# Altium schematic symbol library AM3517_ZCN_FCBGA491.SchLib: 1 symbol
Pins are listed as number, name and electrical type; pins without a type are passive.

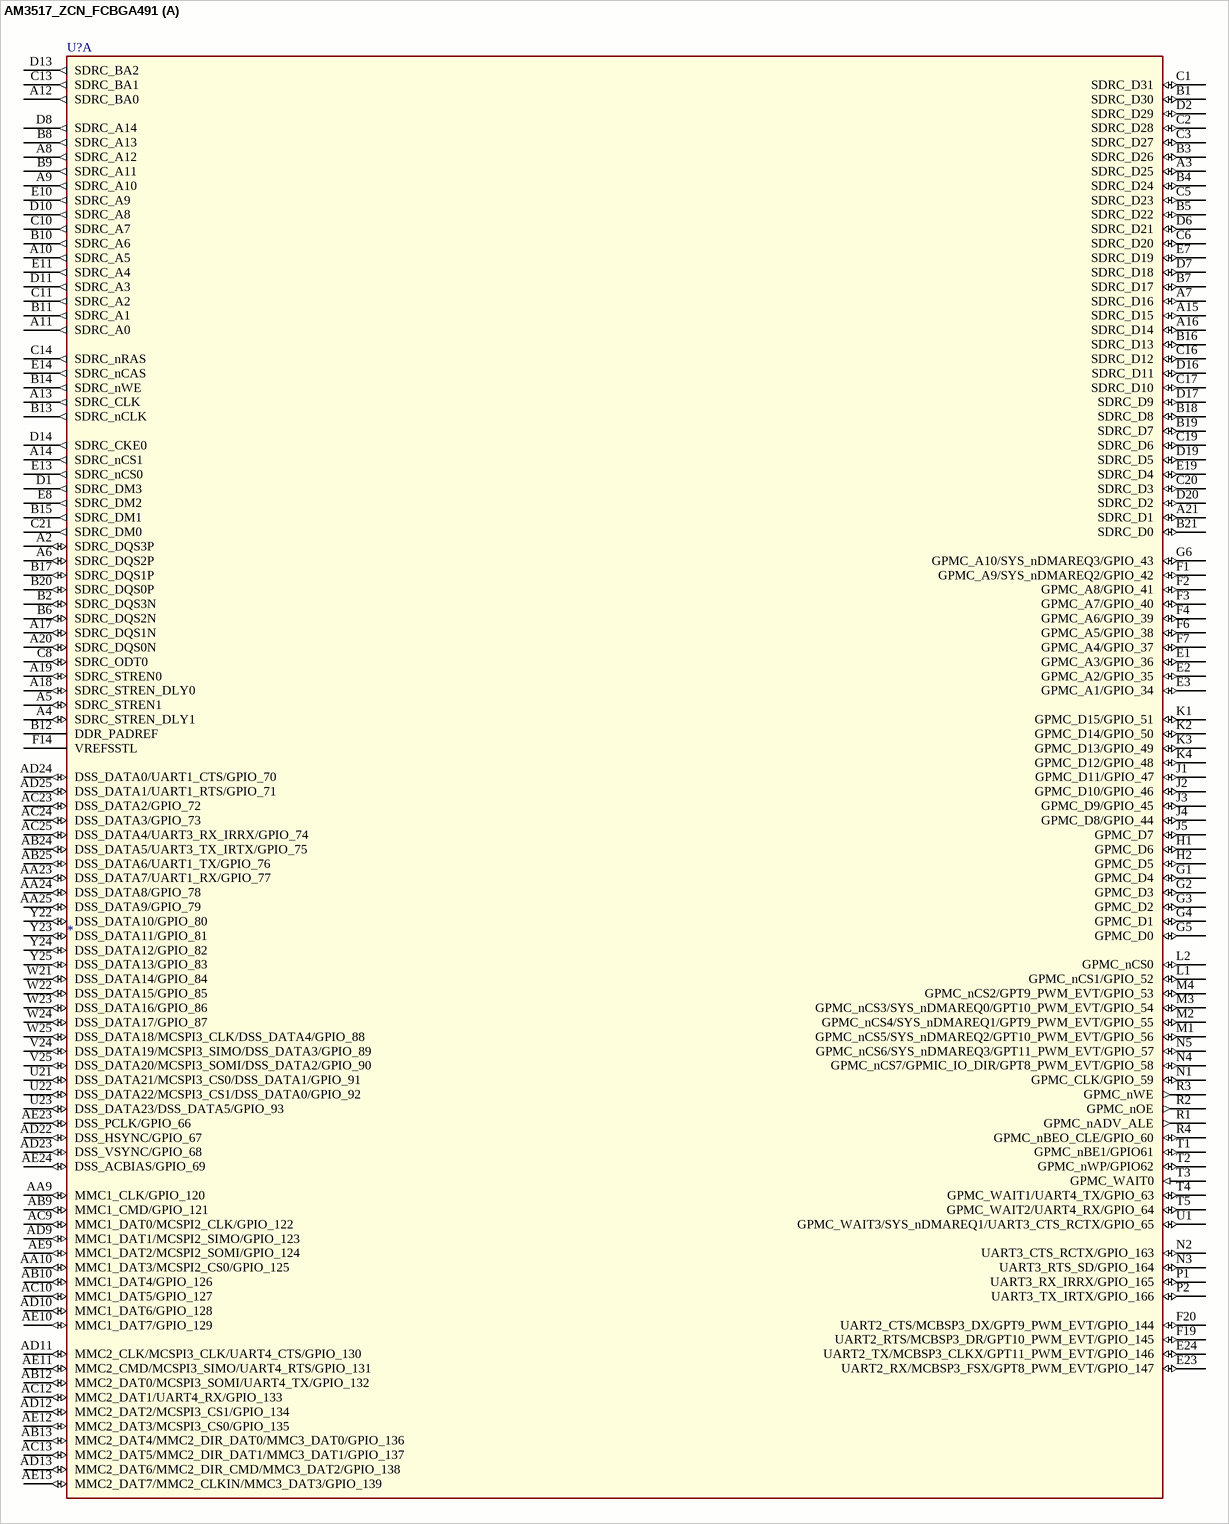
[diagram p0: symbol AM3517_ZCN_FCBGA491]

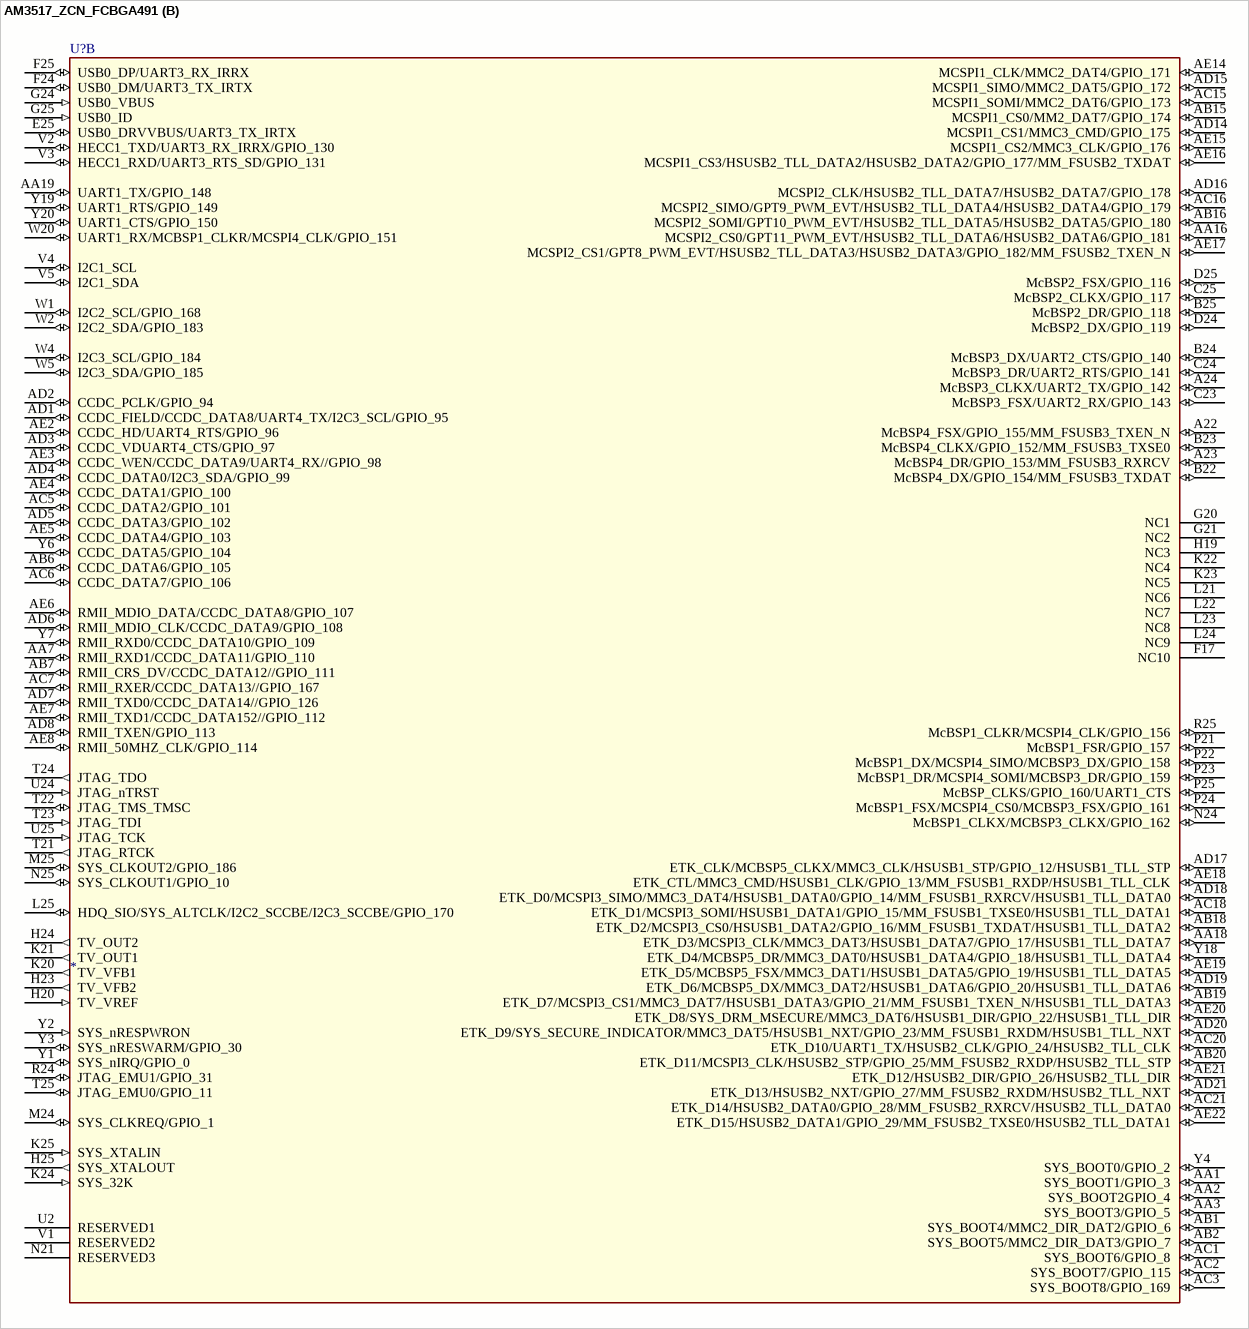
[diagram p1: symbol AM3517_ZCN_FCBGA491]

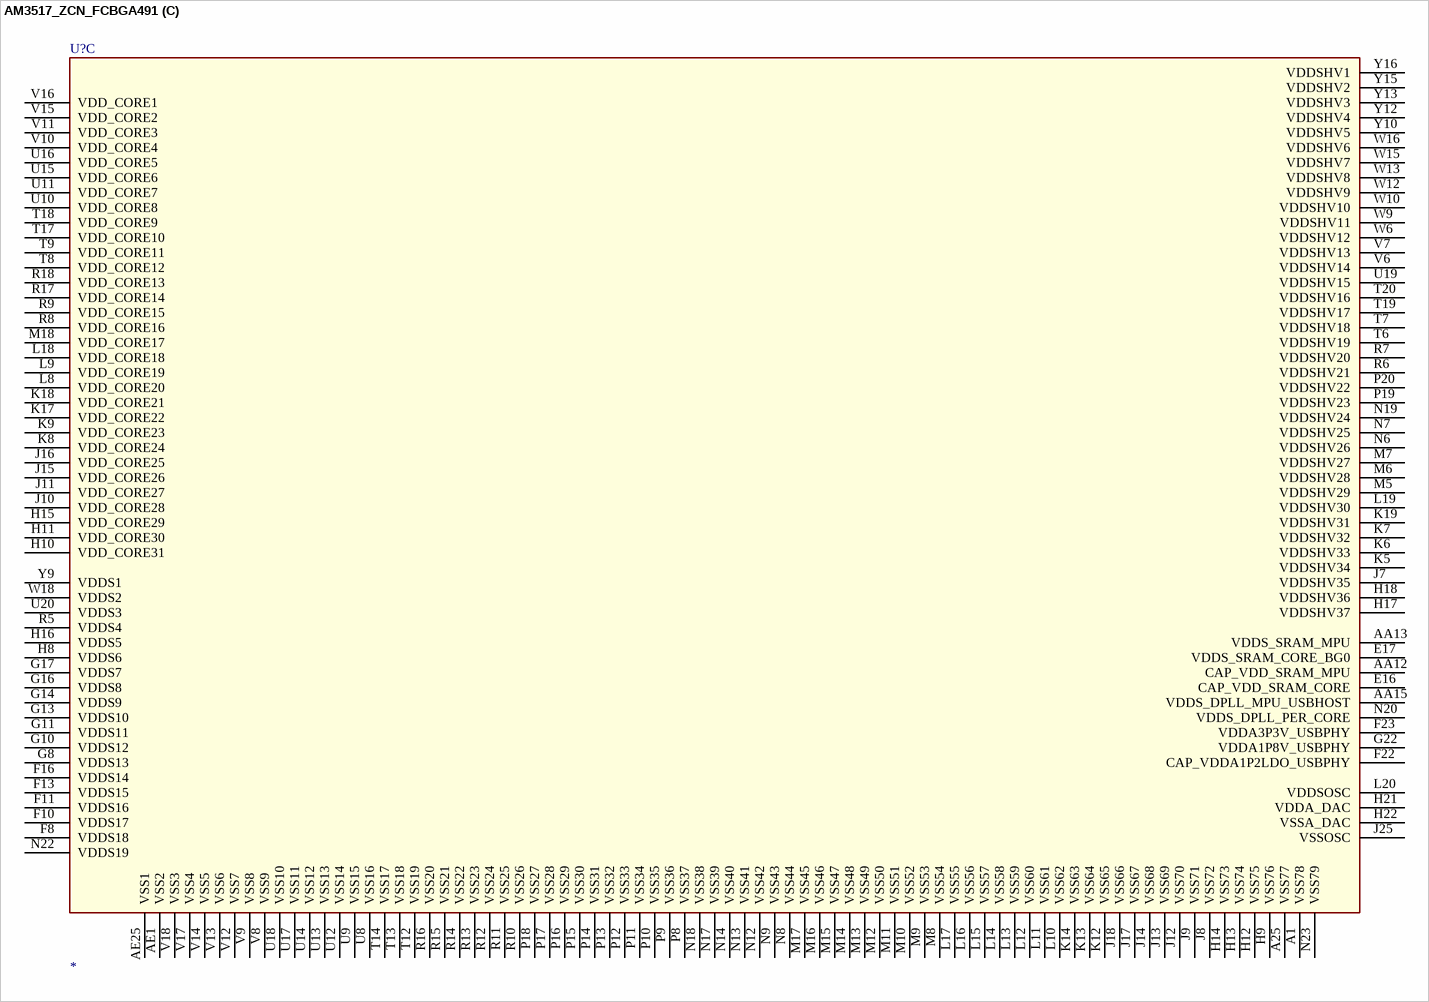
[diagram p2: symbol AM3517_ZCN_FCBGA491]

## AM3517_ZCN_FCBGA491
designator U?
signal-integrity model Model Name (Model Description)
part A pins: A2 SDRC_DQS3P (io), A3 SDRC_D25 (io), A4 SDRC_STREN_DLY1 (io), A5 SDRC_STREN1 (io), A6 SDRC_DQS2P (io), A7 SDRC_D16 (io), A8 SDRC_A12 (out), A9 SDRC_A10 (out), A10 SDRC_A5 (out), A11 SDRC_A0 (out), A12 SDRC_BA0 (out), A13 SDRC_CLK (out), A14 SDRC_nCS1 (out), A15 SDRC_D15 (io), A16 SDRC_D14 (io), A17 SDRC_DQS1N (io), A18 SDRC_STREN_DLY0 (io), A19 SDRC_STREN0 (io), A20 SDRC_DQS0N (io), A21 SDRC_D1 (io), AA9 MMC1_CLK/GPIO_120 (io), AA10 MMC1_DAT3/MCSPI2_CS0/GPIO_125 (io), AA23 DSS_DATA7/UART1_RX/GPIO_77 (io), AA24 DSS_DATA8/GPIO_78 (io), AA25 DSS_DATA9/GPIO_79 (io), AB9 MMC1_CMD/GPIO_121 (io), AB10 MMC1_DAT4/GPIO_126 (io), AB12 MMC2_DAT0/MCSPI3_SOMI/UART4_TX/GPIO_132 (io), AB13 MMC2_DAT4/MMC2_DIR_DAT0/MMC3_DAT0/GPIO_136 (io), AB24 DSS_DATA5/UART3_TX_IRTX/GPIO_75 (io), AB25 DSS_DATA6/UART1_TX/GPIO_76 (io), AC9 MMC1_DAT0/MCSPI2_CLK/GPIO_122 (io), AC10 MMC1_DAT5/GPIO_127 (io), AC12 MMC2_DAT1/UART4_RX/GPIO_133 (io), AC13 MMC2_DAT5/MMC2_DIR_DAT1/MMC3_DAT1/GPIO_137 (io), AC23 DSS_DATA2/GPIO_72 (io), AC24 DSS_DATA3/GPIO_73 (io), AC25 DSS_DATA4/UART3_RX_IRRX/GPIO_74 (io), AD9 MMC1_DAT1/MCSPI2_SIMO/GPIO_123 (io), AD10 MMC1_DAT6/GPIO_128 (io), AD11 MMC2_CLK/MCSPI3_CLK/UART4_CTS/GPIO_130 (io), AD12 MMC2_DAT2/MCSPI3_CS1/GPIO_134 (io), AD13 MMC2_DAT6/MMC2_DIR_CMD/MMC3_DAT2/GPIO_138 (io), AD22 DSS_HSYNC/GPIO_67 (io), AD23 DSS_VSYNC/GPIO_68 (io), AD24 DSS_DATA0/UART1_CTS/GPIO_70 (io), AD25 DSS_DATA1/UART1_RTS/GPIO_71 (io), AE9 MMC1_DAT2/MCSPI2_SOMI/GPIO_124 (io), AE10 MMC1_DAT7/GPIO_129 (io), AE11 MMC2_CMD/MCSPI3_SIMO/UART4_RTS/GPIO_131 (io), AE12 MMC2_DAT3/MCSPI3_CS0/GPIO_135 (io), AE13 MMC2_DAT7/MMC2_CLKIN/MMC3_DAT3/GPIO_139 (io), AE23 DSS_PCLK/GPIO_66 (io), AE24 DSS_ACBIAS/GPIO_69 (io), B1 SDRC_D30 (io), B2 SDRC_DQS3N (io), B3 SDRC_D26 (io), B4 SDRC_D24 (io), B5 SDRC_D22 (io), B6 SDRC_DQS2N (io), B7 SDRC_D17 (io), B8 SDRC_A13 (out), B9 SDRC_A11 (out), B10 SDRC_A6 (out), B11 SDRC_A1 (out), B12 DDR_PADREF, B13 SDRC_nCLK (out), B14 SDRC_nWE (out), B15 SDRC_DM1 (out), B16 SDRC_D13 (io), B17 SDRC_DQS1P (io), B18 SDRC_D8 (io), B19 SDRC_D7 (io), B20 SDRC_DQS0P (io), B21 SDRC_D0 (io), C1 SDRC_D31 (io), C2 SDRC_D28 (io), C3 SDRC_D27 (io), C5 SDRC_D23 (io), C6 SDRC_D20 (io), C8 SDRC_ODT0 (io), C10 SDRC_A7 (out), C11 SDRC_A2 (out), C13 SDRC_BA1 (out), C14 SDRC_nRAS (out), C16 SDRC_D12 (io), C17 SDRC_D10 (io), C19 SDRC_D6 (io), C20 SDRC_D3 (io), C21 SDRC_DM0 (out), D1 SDRC_DM3 (out), D2 SDRC_D29 (io), D6 SDRC_D21 (io), D7 SDRC_D18 (io), D8 SDRC_A14 (out), D10 SDRC_A8 (out), D11 SDRC_A3 (out), D13 SDRC_BA2 (out), D14 SDRC_CKE0 (out), D16 SDRC_D11 (io), D17 SDRC_D9 (io), D19 SDRC_D5 (io), D20 SDRC_D2 (io), E1 GPMC_A3/GPIO_36 (io), E2 GPMC_A2/GPIO_35 (io), E3 GPMC_A1/GPIO_34 (io), E7 SDRC_D19 (io), E8 SDRC_DM2 (out), E10 SDRC_A9 (out), E11 SDRC_A4 (out), E13 SDRC_nCS0 (out), E14 SDRC_nCAS (out), E19 SDRC_D4 (io), E23 UART2_RX/MCBSP3_FSX/GPT8_PWM_EVT/GPIO_147 (io), E24 UART2_TX/MCBSP3_CLKX/GPT11_PWM_EVT/GPIO_146 (io), F1 GPMC_A9/SYS_nDMAREQ2/GPIO_42 (io), F2 GPMC_A8/GPIO_41 (io), F3 GPMC_A7/GPIO_40 (io), F4 GPMC_A6/GPIO_39 (io), F6 GPMC_A5/GPIO_38 (io), F7 GPMC_A4/GPIO_37 (io), F14 VREFSSTL (power), F19 UART2_RTS/MCBSP3_DR/GPT10_PWM_EVT/GPIO_145 (io), F20 UART2_CTS/MCBSP3_DX/GPT9_PWM_EVT/GPIO_144 (io), G1 GPMC_D4 (io), G2 GPMC_D3 (io), G3 GPMC_D2 (io), G4 GPMC_D1 (io), G5 GPMC_D0 (io), G6 GPMC_A10/SYS_nDMAREQ3/GPIO_43 (io), H1 GPMC_D6 (io), H2 GPMC_D5 (io), J1 GPMC_D11/GPIO_47 (io), J2 GPMC_D10/GPIO_46 (io), J3 GPMC_D9/GPIO_45 (io), J4 GPMC_D8/GPIO_44 (io), J5 GPMC_D7 (io), K1 GPMC_D15/GPIO_51 (io), K2 GPMC_D14/GPIO_50 (io), K3 GPMC_D13/GPIO_49 (io), K4 GPMC_D12/GPIO_48 (io), L1 GPMC_nCS1/GPIO_52 (io), L2 GPMC_nCS0 (io), M1 GPMC_nCS5/SYS_nDMAREQ2/GPT10_PWM_EVT/GPIO_56 (io), M2 GPMC_nCS4/SYS_nDMAREQ1/GPT9_PWM_EVT/GPIO_55 (io), M3 GPMC_nCS3/SYS_nDMAREQ0/GPT10_PWM_EVT/GPIO_54 (io), M4 GPMC_nCS2/GPT9_PWM_EVT/GPIO_53 (io), N1 GPMC_CLK/GPIO_59 (io), N2 UART3_CTS_RCTX/GPIO_163 (io), N3 UART3_RTS_SD/GPIO_164 (io), N4 GPMC_nCS7/GPMIC_IO_DIR/GPT8_PWM_EVT/GPIO_58 (io), N5 GPMC_nCS6/SYS_nDMAREQ3/GPT11_PWM_EVT/GPIO_57 (io), P1 UART3_RX_IRRX/GPIO_165 (io), P2 UART3_TX_IRTX/GPIO_166 (io), R1 GPMC_nADV_ALE (out), R2 GPMC_nOE (out), R3 GPMC_nWE (out), R4 GPMC_nBEO_CLE/GPIO_60 (io), T1 GPMC_nBE1/GPIO61 (io), T2 GPMC_nWP/GPIO62 (io), T3 GPMC_WAIT0 (in), T4 GPMC_WAIT1/UART4_TX/GPIO_63 (io), T5 GPMC_WAIT2/UART4_RX/GPIO_64 (io), U1 GPMC_WAIT3/SYS_nDMAREQ1/UART3_CTS_RCTX/GPIO_65 (io), U21 DSS_DATA21/MCSPI3_CS0/DSS_DATA1/GPIO_91 (io), U22 DSS_DATA22/MCSPI3_CS1/DSS_DATA0/GPIO_92 (io), U23 DSS_DATA23/DSS_DATA5/GPIO_93 (io), V24 DSS_DATA19/MCSPI3_SIMO/DSS_DATA3/GPIO_89 (io), V25 DSS_DATA20/MCSPI3_SOMI/DSS_DATA2/GPIO_90 (io), W21 DSS_DATA14/GPIO_84 (io), W22 DSS_DATA15/GPIO_85 (io), W23 DSS_DATA16/GPIO_86 (io), W24 DSS_DATA17/GPIO_87 (io), W25 DSS_DATA18/MCSPI3_CLK/DSS_DATA4/GPIO_88 (io), Y22 DSS_DATA10/GPIO_80 (io), Y23 DSS_DATA11/GPIO_81 (io), Y24 DSS_DATA12/GPIO_82 (io), Y25 DSS_DATA13/GPIO_83 (io)
part B pins: A22 McBSP4_FSX/GPIO_155/MM_FSUSB3_TXEN_N (io), A23 McBSP4_DR/GPIO_153/MM_FSUSB3_RXRCV (io), A24 McBSP3_CLKX/UART2_TX/GPIO_142 (io), AA1 SYS_BOOT1/GPIO_3 (io), AA2 SYS_BOOT2GPIO_4 (io), AA3 SYS_BOOT3/GPIO_5 (io), AA7 RMII_RXD1/CCDC_DATA11/GPIO_110 (io), AA16 MCSPI2_CS0/GPT11_PWM_EVT/HSUSB2_TLL_DATA6/HSUSB2_DATA6/GPIO_181 (io), AA18 ETK_D3/MCSPI3_CLK/MMC3_DAT3/HSUSB1_DATA7/GPIO_17/HSUSB1_TLL_DATA7 (io), AA19 UART1_TX/GPIO_148 (io), AB1 SYS_BOOT4/MMC2_DIR_DAT2/GPIO_6 (io), AB2 SYS_BOOT5/MMC2_DIR_DAT3/GPIO_7 (io), AB6 CCDC_DATA6/GPIO_105 (io), AB7 RMII_CRS_DV/CCDC_DATA12//GPIO_111 (io), AB15 MCSPI1_CS0/MM2_DAT7/GPIO_174 (io), AB16 MCSPI2_SOMI/GPT10_PWM_EVT/HSUSB2_TLL_DATA5/HSUSB2_DATA5/GPIO_180 (io), AB18 ETK_D2/MCSPI3_CS0/HSUSB1_DATA2/GPIO_16/MM_FSUSB1_TXDAT/HSUSB1_TLL_DATA2 (io), AB19 ETK_D7/MCSPI3_CS1/MMC3_DAT7/HSUSB1_DATA3/GPIO_21/MM_FSUSB1_TXEN_N/HSUSB1_TLL_DATA3 (io), AB20 ETK_D11/MCSPI3_CLK/HSUSB2_STP/GPIO_25/MM_FSUSB2_RXDP/HSUSB2_TLL_STP (io), AC1 SYS_BOOT6/GPIO_8 (io), AC2 SYS_BOOT7/GPIO_115 (io), AC3 SYS_BOOT8/GPIO_169 (io), AC5 CCDC_DATA2/GPIO_101 (io), AC6 CCDC_DATA7/GPIO_106 (io), AC7 RMII_RXER/CCDC_DATA13//GPIO_167 (io), AC15 MCSPI1_SOMI/MMC2_DAT6/GPIO_173 (io), AC16 MCSPI2_SIMO/GPT9_PWM_EVT/HSUSB2_TLL_DATA4/HSUSB2_DATA4/GPIO_179 (io), AC18 ETK_D1/MCSPI3_SOMI/HSUSB1_DATA1/GPIO_15/MM_FSUSB1_TXSE0/HSUSB1_TLL_DATA1 (io), AC20 ETK_D10/UART1_TX/HSUSB2_CLK/GPIO_24/HSUSB2_TLL_CLK (io), AC21 ETK_D14/HSUSB2_DATA0/GPIO_28/MM_FSUSB2_RXRCV/HSUSB2_TLL_DATA0 (io), AD1 CCDC_FIELD/CCDC_DATA8/UART4_TX/I2C3_SCL/GPIO_95 (io), AD2 CCDC_PCLK/GPIO_94 (io), AD3 CCDC_VDUART4_CTS/GPIO_97 (io), AD4 CCDC_DATA0/I2C3_SDA/GPIO_99 (io), AD5 CCDC_DATA3/GPIO_102 (io), AD6 RMII_MDIO_CLK/CCDC_DATA9/GPIO_108 (io), AD7 RMII_TXD0/CCDC_DATA14//GPIO_126 (io), AD8 RMII_TXEN/GPIO_113 (io), AD14 MCSPI1_CS1/MMC3_CMD/GPIO_175 (io), AD15 MCSPI1_SIMO/MMC2_DAT5/GPIO_172 (io), AD16 MCSPI2_CLK/HSUSB2_TLL_DATA7/HSUSB2_DATA7/GPIO_178 (io), AD17 ETK_CLK/MCBSP5_CLKX/MMC3_CLK/HSUSB1_STP/GPIO_12/HSUSB1_TLL_STP (io), AD18 ETK_D0/MCSPI3_SIMO/MMC3_DAT4/HSUSB1_DATA0/GPIO_14/MM_FSUSB1_RXRCV/HSUSB1_TLL_DATA0 (io), AD19 ETK_D6/MCBSP5_DX/MMC3_DAT2/HSUSB1_DATA6/GPIO_20/HSUSB1_TLL_DATA6 (io), AD20 ETK_D9/SYS_SECURE_INDICATOR/MMC3_DAT5/HSUSB1_NXT/GPIO_23/MM_FSUSB1_RXDM/HSUSB1_TLL_NXT (io), AD21 ETK_D13/HSUSB2_NXT/GPIO_27/MM_FSUSB2_RXDM/HSUSB2_TLL_NXT (io), AE2 CCDC_HD/UART4_RTS/GPIO_96 (io), AE3 CCDC_WEN/CCDC_DATA9/UART4_RX//GPIO_98 (io), AE4 CCDC_DATA1/GPIO_100 (io), AE5 CCDC_DATA4/GPIO_103 (io), AE6 RMII_MDIO_DATA/CCDC_DATA8/GPIO_107 (io), AE7 RMII_TXD1/CCDC_DATA152//GPIO_112 (io), AE8 RMII_50MHZ_CLK/GPIO_114 (io), AE14 MCSPI1_CLK/MMC2_DAT4/GPIO_171 (io), AE15 MCSPI1_CS2/MMC3_CLK/GPIO_176 (io), AE16 MCSPI1_CS3/HSUSB2_TLL_DATA2/HSUSB2_DATA2/GPIO_177/MM_FSUSB2_TXDAT (io), AE17 MCSPI2_CS1/GPT8_PWM_EVT/HSUSB2_TLL_DATA3/HSUSB2_DATA3/GPIO_182/MM_FSUSB2_TXEN_N (io), AE18 ETK_CTL/MMC3_CMD/HSUSB1_CLK/GPIO_13/MM_FSUSB1_RXDP/HSUSB1_TLL_CLK (io), AE19 ETK_D5/MCBSP5_FSX/MMC3_DAT1/HSUSB1_DATA5/GPIO_19/HSUSB1_TLL_DATA5 (io), AE20 ETK_D8/SYS_DRM_MSECURE/MMC3_DAT6/HSUSB1_DIR/GPIO_22/HSUSB1_TLL_DIR (io), AE21 ETK_D12/HSUSB2_DIR/GPIO_26/HSUSB2_TLL_DIR (io), AE22 ETK_D15/HSUSB2_DATA1/GPIO_29/MM_FSUSB2_TXSE0/HSUSB2_TLL_DATA1 (io), B22 McBSP4_DX/GPIO_154/MM_FSUSB3_TXDAT (io), B23 McBSP4_CLKX/GPIO_152/MM_FSUSB3_TXSE0 (io), B24 McBSP3_DX/UART2_CTS/GPIO_140 (io), B25 McBSP2_DR/GPIO_118 (io), C23 McBSP3_FSX/UART2_RX/GPIO_143 (io), C24 McBSP3_DR/UART2_RTS/GPIO_141 (io), C25 McBSP2_CLKX/GPIO_117 (io), D24 McBSP2_DX/GPIO_119 (io), D25 McBSP2_FSX/GPIO_116 (io), E25 USB0_DRVVBUS/UART3_TX_IRTX (io), F17 NC10, F24 USB0_DM/UART3_TX_IRTX (io), F25 USB0_DP/UART3_RX_IRRX (io), G20 NC1, G21 NC2, G24 USB0_VBUS (in), G25 USB0_ID (in), H19 NC3, H20 TV_VREF (in), H23 TV_VFB2 (out), H24 TV_OUT2 (out), H25 SYS_XTALOUT (out), K20 TV_VFB1 (out), K21 TV_OUT1 (out), K22 NC4, K23 NC5, K24 SYS_32K (in), K25 SYS_XTALIN (in), L21 NC6, L22 NC7, L23 NC8, L24 NC9, L25 HDQ_SIO/SYS_ALTCLK/I2C2_SCCBE/I2C3_SCCBE/GPIO_170 (io), M24 SYS_CLKREQ/GPIO_1 (io), M25 SYS_CLKOUT2/GPIO_186 (io), N21 RESERVED3, N24 McBSP1_CLKX/MCBSP3_CLKX/GPIO_162 (io), N25 SYS_CLKOUT1/GPIO_10 (io), P21 McBSP1_FSR/GPIO_157 (io), P22 McBSP1_DX/MCSPI4_SIMO/MCBSP3_DX/GPIO_158 (io), P23 McBSP1_DR/MCSPI4_SOMI/MCBSP3_DR/GPIO_159 (io), P24 McBSP1_FSX/MCSPI4_CS0/MCBSP3_FSX/GPIO_161 (io), P25 McBSP_CLKS/GPIO_160/UART1_CTS (io), R24 JTAG_EMU1/GPIO_31 (io), R25 McBSP1_CLKR/MCSPI4_CLK/GPIO_156 (io), T21 JTAG_RTCK (out), T22 JTAG_TMS_TMSC (io), T23 JTAG_TDI (in), T24 JTAG_TDO (out), T25 JTAG_EMU0/GPIO_11 (io), U2 RESERVED1, U24 JTAG_nTRST (in), U25 JTAG_TCK (in), V1 RESERVED2, V2 HECC1_TXD/UART3_RX_IRRX/GPIO_130 (io), V3 HECC1_RXD/UART3_RTS_SD/GPIO_131 (io), V4 I2C1_SCL (io), V5 I2C1_SDA (io), W1 I2C2_SCL/GPIO_168 (io), W2 I2C2_SDA/GPIO_183 (io), W4 I2C3_SCL/GPIO_184 (io), W5 I2C3_SDA/GPIO_185 (io), W20 UART1_RX/MCBSP1_CLKR/MCSPI4_CLK/GPIO_151 (io), Y1 SYS_nIRQ/GPIO_0 (io), Y2 SYS_nRESPWRON (in), Y3 SYS_nRESWARM/GPIO_30 (io), Y4 SYS_BOOT0/GPIO_2 (io), Y6 CCDC_DATA5/GPIO_104 (io), Y7 RMII_RXD0/CCDC_DATA10/GPIO_109 (io), Y18 ETK_D4/MCBSP5_DR/MMC3_DAT0/HSUSB1_DATA4/GPIO_18/HSUSB1_TLL_DATA4 (io), Y19 UART1_RTS/GPIO_149 (io), Y20 UART1_CTS/GPIO_150 (io)
part C pins: A1 VSS78 (power), A25 VSS77 (power), AA12 CAP_VDD_SRAM_MPU (power), AA13 VDDS_SRAM_MPU (power), AA15 VDDS_DPLL_MPU_USBHOST (power), AE1 VSS2 (power), AE25 VSS1 (power), E16 CAP_VDD_SRAM_CORE (power), E17 VDDS_SRAM_CORE_BG0 (power), F8 VDDS18 (power), F10 VDDS17 (power), F11 VDDS16 (power), F13 VDDS15 (power), F16 VDDS14 (power), F22 CAP_VDDA1P2LDO_USBPHY (power), F23 VDDA3P3V_USBPHY (power), G8 VDDS13 (power), G10 VDDS12 (power), G11 VDDS11 (power), G13 VDDS10 (power), G14 VDDS9 (power), G16 VDDS8 (power), G17 VDDS7 (power), G22 VDDA1P8V_USBPHY (power), H8 VDDS6 (power), H9 VSS76 (power), H10 VDD_CORE31 (power), H11 VDD_CORE30 (power), H12 VSS75 (power), H13 VSS74 (power), H14 VSS73 (power), H15 VDD_CORE29 (power), H16 VDDS5 (power), H17 VDDSHV37 (power), H18 VDDSHV36 (power), H21 VDDA_DAC (power), H22 VSSA_DAC (power), J7 VDDSHV35 (power), J8 VSS72 (power), J9 VSS71 (power), J10 VDD_CORE28 (power), J11 VDD_CORE27 (power), J12 VSS70 (power), J13 VSS69 (power), J14 VSS68 (power), J15 VDD_CORE26 (power), J16 VDD_CORE25 (power), J17 VSS67 (power), J18 VSS66 (power), J25 VSSOSC (power), K5 VDDSHV34 (power), K6 VDDSHV33 (power), K7 VDDSHV32 (power), K8 VDD_CORE24 (power), K9 VDD_CORE23 (power), K12 VSS65 (power), K13 VSS64 (power), K14 VSS63 (power), K17 VDD_CORE22 (power), K18 VDD_CORE21 (power), K19 VDDSHV31 (power), L8 VDD_CORE20 (power), L9 VDD_CORE19 (power), L10 VSS62 (power), L11 VSS61 (power), L12 VSS60 (power), L13 VSS59 (power), L14 VSS58 (power), L15 VSS57 (power), L16 VSS56 (power), L17 VSS55 (power), L18 VDD_CORE18 (power), L19 VDDSHV30 (power), L20 VDDSOSC (power), M5 VDDSHV29 (power), M6 VDDSHV28 (power), M7 VDDSHV27 (power), M8 VSS54 (power), M9 VSS53 (power), M10 VSS52 (power), M11 VSS51 (power), M12 VSS50 (power), M13 VSS49 (power), M14 VSS48 (power), M15 VSS47 (power), M16 VSS46 (power), M17 VSS45 (power), M18 VDD_CORE17 (power), N6 VDDSHV26 (power), N7 VDDSHV25 (power), N8 VSS44 (power), N9 VSS43 (power), N12 VSS42 (power), N13 VSS41 (power), N14 VSS40 (power), N17 VSS39 (power), N18 VSS38 (power), N19 VDDSHV24 (power), N20 VDDS_DPLL_PER_CORE (power), N22 VDDS19 (power), N23 VSS79 (power), P8 VSS37 (power), P9 VSS36 (power), P10 VSS35 (power), P11 VSS34 (power), P12 VSS33 (power), P13 VSS32 (power), P14 VSS31 (power), P15 VSS30 (power), P16 VSS29 (power), P17 VSS28 (power), P18 VSS27 (power), P19 VDDSHV23 (power), P20 VDDSHV22 (power), R5 VDDS4 (power), R6 VDDSHV21 (power), R7 VDDSHV20 (power), R8 VDD_CORE16 (power), R9 VDD_CORE15 (power), R10 VSS26 (power), R11 VSS25 (power), R12 VSS24 (power), R13 VSS23 (power), R14 VSS22 (power), R15 VSS21 (power), R16 VSS20 (power), R17 VDD_CORE14 (power), R18 VDD_CORE13 (power), T6 VDDSHV19 (power), T7 VDDSHV18 (power), T8 VDD_CORE12 (power), T9 VDD_CORE11 (power), T12 VSS19 (power), T13 VSS18 (power), T14 VSS17 (power), T17 VDD_CORE10 (power), T18 VDD_CORE9 (power), T19 VDDSHV17 (power), T20 VDDSHV16 (power), U8 VSS16 (power), U9 VSS15 (power), U10 VDD_CORE8 (power), U11 VDD_CORE7 (power), U12 VSS14 (power), U13 VSS13 (power), U14 VSS12 (power), U15 VDD_CORE6 (power), U16 VDD_CORE5 (power), U17 VSS11 (power), U18 VSS10 (power), U19 VDDSHV15 (power), U20 VDDS3 (power), V6 VDDSHV14 (power), V7 VDDSHV13 (power), V8 VSS9 (power), V9 VSS8 (power), V10 VDD_CORE4 (power), V11 VDD_CORE3 (power), V12 VSS7 (power), V13 VSS6 (power), V14 VSS5 (power), V15 VDD_CORE2 (power), V16 VDD_CORE1 (power), V17 VSS4 (power), V18 VSS3 (power), W6 VDDSHV12 (power), W9 VDDSHV11 (power), W10 VDDSHV10 (power), W12 VDDSHV9 (power), W13 VDDSHV8 (power), W15 VDDSHV7 (power), W16 VDDSHV6 (power), W18 VDDS2 (power), Y9 VDDS1 (power), Y10 VDDSHV5 (power), Y12 VDDSHV4 (power), Y13 VDDSHV3 (power), Y15 VDDSHV2 (power), Y16 VDDSHV1 (power)